# Altium footprint library WCAP-AIG5.PcbLib: 30 footprints (part 1 of 2)
Each footprint in its own frame and in the unit in brackets; x right, y up, seen from the top. Pads: shape width x height; smd on the part's side, far side on the other; paste and mask are expansions set on the pad; w line width, h text height; cw(c..) or ccw(c..) is an arc to the next point about the centre after c.
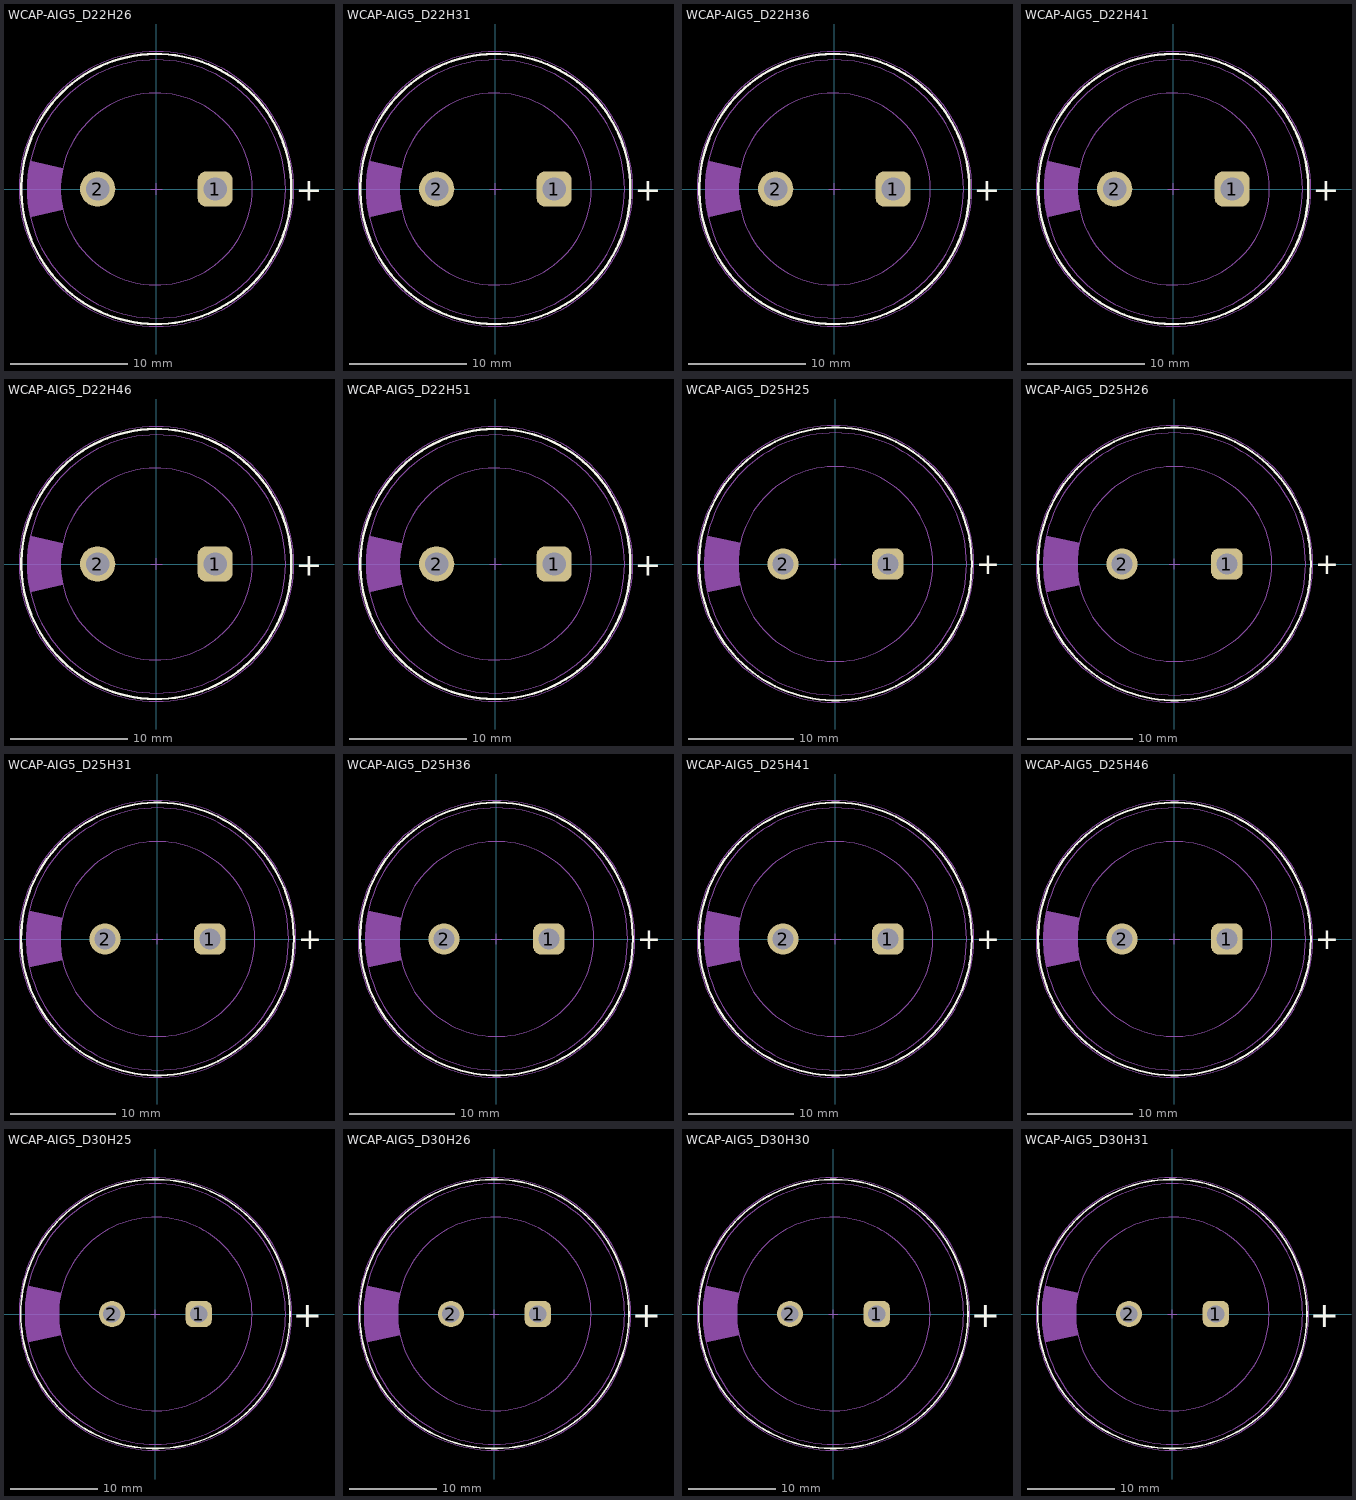
[diagram p0: the footprints below, top view; thin cyan lines are the x and y axes]

## WCAP-AIG5_D22H26 [mm] "Aluminium Electrolytic Snap-In Capacitors, 22x26mm"
height 26
pads (2):
  rrect50% 3x3 hole 2: 1(5,0)
  round 3 hole 2: 2(-5,0)
Top Overlay:
  circle w0.2: c0,0 r11.5
  text "+" at 11.85,-1 h2
Top Component Outline:
  circle w0.1: c0,0 r11
  circle w0.1: c0,0 r8.17
  region: -10.737,-2.391 -7.974,-1.779 -7.975,-1.776 -8.06,-1.337 -8.158,-0.447 -8.158,0.447 -8.06,1.337 -7.975,1.776 -7.974,1.779 -10.737,2.391 -10.802,2.097 -10.901,1.503 -10.967,0.903 -11,0.301 -11,-0.301 -10.967,-0.903 -10.901,-1.503 -10.802,-2.097
Top Courtyard:
  circle w0.05: c0,0 r11.7
Top Component Center:
  lines w0.05: -0.5,0 0.5,0 ; 0,-0.5 0,0.5
Top Designator (Mech19):
  text ".Designator" at -7.498,-0.5 h1.5
3D body "22x26.stp": height 26.09, standoff -6.05, extent -10.96,-11 11,11

## WCAP-AIG5_D22H31 [mm] "Aluminium Electrolytic Snap-In Capacitors, 22x31mm"
height 31
pads (2):
  rrect50% 3x3 hole 2: 1(5,0)
  round 3 hole 2: 2(-5,0)
Top Overlay:
  circle w0.2: c0,0 r11.5
  text "+" at 11.85,-1 h2
Top Component Outline:
  circle w0.1: c0,0 r11
  circle w0.1: c0,0 r8.17
  region: -10.737,-2.391 -7.974,-1.779 -7.975,-1.776 -8.06,-1.337 -8.158,-0.447 -8.158,0.447 -8.06,1.337 -7.975,1.776 -7.974,1.779 -10.737,2.391 -10.802,2.097 -10.901,1.503 -10.967,0.903 -11,0.301 -11,-0.301 -10.967,-0.903 -10.901,-1.503 -10.802,-2.097
Top Courtyard:
  circle w0.05: c0,0 r11.7
Top Component Center:
  lines w0.05: -0.5,0 0.5,0 ; 0,-0.5 0,0.5
Top Designator (Mech19):
  text ".Designator" at -7.498,-0.5 h1.5
3D body "22x31.stp": height 31.09, standoff -6.05, extent -10.96,-11 11,11

## WCAP-AIG5_D22H36 [mm] "Aluminium Electrolytic Snap-In Capacitors, 22x36mm"
height 36
pads (2):
  rrect50% 3x3 hole 2: 1(5,0)
  round 3 hole 2: 2(-5,0)
Top Overlay:
  circle w0.2: c0,0 r11.5
  text "+" at 11.85,-1 h2
Top Component Outline:
  circle w0.1: c0,0 r8.17
  circle w0.1: c0,0 r11
  region: -10.737,-2.391 -7.974,-1.779 -7.975,-1.776 -8.06,-1.337 -8.158,-0.447 -8.158,0.447 -8.06,1.337 -7.975,1.776 -7.974,1.779 -10.737,2.391 -10.802,2.097 -10.901,1.503 -10.967,0.903 -11,0.301 -11,-0.301 -10.967,-0.903 -10.901,-1.503 -10.802,-2.097
Top Courtyard:
  circle w0.05: c0,0 r11.7
Top Component Center:
  lines w0.05: -0.5,0 0.5,0 ; 0,-0.5 0,0.5
Top Designator (Mech19):
  text ".Designator" at -7.498,-0.5 h1.5
3D body "22x36.stp": height 36.09, standoff -6.05, extent -10.96,-10.999 11,10.999

## WCAP-AIG5_D22H41 [mm] "Aluminium Electrolytic Snap-In Capacitors, 22x41mm"
height 41
pads (2):
  rrect50% 3x3 hole 2: 1(5,0)
  round 3 hole 2: 2(-5,0)
Top Overlay:
  circle w0.2: c0,0 r11.5
  text "+" at 11.85,-1 h2
Top Component Outline:
  circle w0.1: c0,0 r8.17
  circle w0.1: c0,0 r11
  region: -10.737,-2.391 -7.974,-1.779 -7.975,-1.776 -8.06,-1.337 -8.158,-0.447 -8.158,0.447 -8.06,1.337 -7.975,1.776 -7.974,1.779 -10.737,2.391 -10.802,2.097 -10.901,1.503 -10.967,0.903 -11,0.301 -11,-0.301 -10.967,-0.903 -10.901,-1.503 -10.802,-2.097
Top Courtyard:
  circle w0.05: c0,0 r11.7
Top Component Center:
  lines w0.05: -0.5,0 0.5,0 ; 0,-0.5 0,0.5
Top Designator (Mech19):
  text ".Designator" at -7.498,-0.5 h1.5
3D body "22x41.stp": height 41.09, standoff -6.05, extent -10.96,-10.999 11,10.998

## WCAP-AIG5_D22H46 [mm] "Aluminium Electrolytic Snap-In Capacitors, 22x46mm"
height 46
pads (2):
  rrect50% 3x3 hole 2: 1(5,0)
  round 3 hole 2: 2(-5,0)
Top Overlay:
  circle w0.2: c0,0 r11.5
  text "+" at 11.85,-1 h2
Top Component Outline:
  circle w0.1: c0,0 r11
  circle w0.1: c0,0 r8.17
  region: -10.737,-2.391 -7.974,-1.779 -7.975,-1.776 -8.06,-1.337 -8.158,-0.447 -8.158,0.447 -8.06,1.337 -7.975,1.776 -7.974,1.779 -10.737,2.391 -10.802,2.097 -10.901,1.503 -10.967,0.903 -11,0.301 -11,-0.301 -10.967,-0.903 -10.901,-1.503 -10.802,-2.097
Top Courtyard:
  circle w0.05: c0,0 r11.7
Top Component Center:
  lines w0.05: -0.5,0 0.5,0 ; 0,-0.5 0,0.5
Top Designator (Mech19):
  text ".Designator" at -7.498,-0.5 h1.5
3D body "22x46.stp": height 46.09, standoff -6.05, extent -10.96,-10.998 11,10.996

## WCAP-AIG5_D22H51 [mm] "Aluminium Electrolytic Snap-In Capacitors, 22x51mm"
height 51
pads (2):
  rrect50% 3x3 hole 2: 1(5,0)
  round 3 hole 2: 2(-5,0)
Top Overlay:
  circle w0.2: c0,0 r11.5
  text "+" at 11.85,-1 h2
Top Component Outline:
  circle w0.1: c0,0 r11
  circle w0.1: c0,0 r8.17
  region: -10.737,-2.391 -7.974,-1.779 -7.975,-1.776 -8.06,-1.337 -8.158,-0.447 -8.158,0.447 -8.06,1.337 -7.975,1.776 -7.974,1.779 -10.737,2.391 -10.802,2.097 -10.901,1.503 -10.967,0.903 -11,0.301 -11,-0.301 -10.967,-0.903 -10.901,-1.503 -10.802,-2.097
Top Courtyard:
  circle w0.05: c0,0 r11.7
Top Component Center:
  lines w0.05: -0.5,0 0.5,0 ; 0,-0.5 0,0.5
Top Designator (Mech19):
  text ".Designator" at -7.498,-0.5 h1.5
3D body "22x51.stp": height 51.09, standoff -6.05, extent -10.96,-10.996 11,10.993

## WCAP-AIG5_D25H25 [mm] "Aluminium Electrolytic Snap-In Capacitors, 25x25mm"
height 25
pads (2):
  rrect50% 3x3 hole 2: 1(5,0)
  round 3 hole 2: 2(-5,0)
Top Overlay:
  circle w0.2: c0,0 r13
  text "+" at 13.4,-1 h2
Top Component Outline:
  circle w0.1: c0,0 r9.29
  circle w0.1: c0,0 r12.5
  region: -12.204,-2.704 -9.066,-2.026 -9.068,-2.02 -9.12,-1.771 -9.203,-1.269 -9.259,-0.763 -9.287,-0.255 -9.287,0.255 -9.259,0.763 -9.203,1.269 -9.12,1.771 -9.068,2.02 -9.066,2.026 -12.204,2.704 -12.278,2.372 -12.389,1.699 -12.463,1.021 -12.5,0.341 -12.5,-0.341 -12.463,-1.021 -12.389,-1.699 -12.278,-2.372
Top Courtyard:
  circle w0.05: c0,0 r13.2
Top Component Center:
  lines w0.05: -0.5,0 0.5,0 ; 0,-0.5 0,0.5
Top Designator (Mech19):
  text ".Designator" at -7.498,-0.5 h1.5
3D body "25x25.stp": height 26.09, standoff -6.05, extent -12.46,-12.499 12.499,12.498

## WCAP-AIG5_D25H26 [mm] "Aluminium Electrolytic Snap-In Capacitors, 25x26mm"
height 26
pads (2):
  rrect50% 3x3 hole 2: 1(5,0)
  round 3 hole 2: 2(-5,0)
Top Overlay:
  circle w0.2: c0,0 r13
  text "+" at 13.4,-1 h2
Top Component Outline:
  circle w0.1: c0,0 r9.29
  circle w0.1: c0,0 r12.5
  region: -12.204,-2.704 -9.066,-2.026 -9.068,-2.02 -9.12,-1.771 -9.203,-1.269 -9.259,-0.763 -9.287,-0.255 -9.287,0.255 -9.259,0.763 -9.203,1.269 -9.12,1.771 -9.068,2.02 -9.066,2.026 -12.204,2.704 -12.278,2.372 -12.389,1.699 -12.463,1.021 -12.5,0.341 -12.5,-0.341 -12.463,-1.021 -12.389,-1.699 -12.278,-2.372
Top Courtyard:
  circle w0.05: c0,0 r13.2
Top Component Center:
  lines w0.05: -0.5,0 0.5,0 ; 0,-0.5 0,0.5
Top Designator (Mech19):
  text ".Designator" at -7.498,-0.5 h1.5
3D body "25X26.stp": height 26.09, standoff -6.05, extent -12.46,-12.499 12.499,12.498

## WCAP-AIG5_D25H31 [mm] "Aluminium Electrolytic Snap-In Capacitors, 25x31mm"
height 31
pads (2):
  rrect50% 3x3 hole 2: 1(5,0)
  round 3 hole 2: 2(-5,0)
Top Overlay:
  circle w0.2: c0,0 r13
  text "+" at 13.4,-1 h2
Top Component Outline:
  circle w0.1: c0,0 r12.5
  circle w0.1: c0,0 r9.29
  region: -12.204,-2.704 -9.066,-2.026 -9.068,-2.02 -9.12,-1.771 -9.203,-1.269 -9.259,-0.763 -9.287,-0.255 -9.287,0.255 -9.259,0.763 -9.203,1.269 -9.12,1.771 -9.068,2.02 -9.066,2.026 -12.204,2.704 -12.278,2.372 -12.389,1.699 -12.463,1.021 -12.5,0.341 -12.5,-0.341 -12.463,-1.021 -12.389,-1.699 -12.278,-2.372
Top Courtyard:
  circle w0.05: c0,0 r13.2
Top Component Center:
  lines w0.05: -0.5,0 0.5,0 ; 0,-0.5 0,0.5
Top Designator (Mech19):
  text ".Designator" at -7.498,-0.5 h1.5
3D body "25X31.stp": height 31.09, standoff -6.05, extent -12.46,-12.497 12.499,12.496

## WCAP-AIG5_D25H36 [mm] "Aluminium Electrolytic Snap-In Capacitors, 25x36mm"
height 36
pads (2):
  rrect50% 3x3 hole 2: 1(5,0)
  round 3 hole 2: 2(-5,0)
Top Overlay:
  circle w0.2: c0,0 r13
  text "+" at 13.4,-1 h2
Top Component Outline:
  circle w0.1: c0,0 r12.5
  circle w0.1: c0,0 r9.29
  region: -12.204,-2.704 -9.066,-2.026 -9.068,-2.02 -9.12,-1.771 -9.203,-1.269 -9.259,-0.763 -9.287,-0.255 -9.287,0.255 -9.259,0.763 -9.203,1.269 -9.12,1.771 -9.068,2.02 -9.066,2.026 -12.204,2.704 -12.278,2.372 -12.389,1.699 -12.463,1.021 -12.5,0.341 -12.5,-0.341 -12.463,-1.021 -12.389,-1.699 -12.278,-2.372
Top Courtyard:
  circle w0.05: c0,0 r13.2
Top Component Center:
  lines w0.05: -0.5,0 0.5,0 ; 0,-0.5 0,0.5
Top Designator (Mech19):
  text ".Designator" at -7.498,-0.5 h1.5
3D body "25X36.stp": height 36.09, standoff -6.05, extent -12.46,-12.5 12.499,12.5

## WCAP-AIG5_D25H41 [mm] "Aluminium Electrolytic Snap-In Capacitors, 25x41mm"
height 41
pads (2):
  rrect50% 3x3 hole 2: 1(5,0)
  round 3 hole 2: 2(-5,0)
Top Overlay:
  circle w0.2: c0,0 r13
  text "+" at 13.4,-1 h2
Top Component Outline:
  circle w0.1: c0,0 r12.5
  circle w0.1: c0,0 r9.29
  region: -12.204,-2.704 -9.066,-2.026 -9.068,-2.02 -9.12,-1.771 -9.203,-1.269 -9.259,-0.763 -9.287,-0.255 -9.287,0.255 -9.259,0.763 -9.203,1.269 -9.12,1.771 -9.068,2.02 -9.066,2.026 -12.204,2.704 -12.278,2.372 -12.389,1.699 -12.463,1.021 -12.5,0.341 -12.5,-0.341 -12.463,-1.021 -12.389,-1.699 -12.278,-2.372
Top Courtyard:
  circle w0.05: c0,0 r13.2
Top Component Center:
  lines w0.05: -0.5,0 0.5,0 ; 0,-0.5 0,0.5
Top Designator (Mech19):
  text ".Designator" at -7.498,-0.5 h1.5
3D body "25x41.stp": height 41.09, standoff -6.05, extent -12.46,-12.496 12.499,12.498

## WCAP-AIG5_D25H46 [mm] "Aluminium Electrolytic Snap-In Capacitors, 25x46mm"
height 46
pads (2):
  rrect50% 3x3 hole 2: 1(5,0)
  round 3 hole 2: 2(-5,0)
Top Overlay:
  circle w0.2: c0,0 r13
  text "+" at 13.4,-1 h2
Top Component Outline:
  circle w0.1: c0,0 r9.29
  circle w0.1: c0,0 r12.5
  region: -12.204,-2.704 -9.066,-2.026 -9.068,-2.02 -9.12,-1.771 -9.203,-1.269 -9.259,-0.763 -9.287,-0.255 -9.287,0.255 -9.259,0.763 -9.203,1.269 -9.12,1.771 -9.068,2.02 -9.066,2.026 -12.204,2.704 -12.278,2.372 -12.389,1.699 -12.463,1.021 -12.5,0.341 -12.5,-0.341 -12.463,-1.021 -12.389,-1.699 -12.278,-2.372
Top Courtyard:
  circle w0.05: c0,0 r13.2
Top Component Center:
  lines w0.05: -0.5,0 0.5,0 ; 0,-0.5 0,0.5
Top Designator (Mech19):
  text ".Designator" at -7.498,-0.5 h1.5
3D body "25x46.stp": height 46.09, standoff -6.05, extent -12.46,-12.497 12.499,12.499

## WCAP-AIG5_D30H25 [mm] "Aluminium Electrolytic Snap-In Capacitors, 30x25mm"
height 25
pads (2):
  rrect50% 3x3 hole 2: 1(5,0)
  round 3 hole 2: 2(-5,0)
Top Overlay:
  circle w0.2: c0,0 r15.5
  text "+" at 15.85,-1.5 h3
Top Component Outline:
  circle w0.1: c0,0 r11.14
  circle w0.1: c0,0 r15
  region: -14.643,-3.251 -10.874,-2.422 -10.874,-2.421 -10.936,-2.122 -11.036,-1.52 -11.102,-0.914 -11.136,-0.305 -11.136,0.305 -11.102,0.914 -11.036,1.52 -10.936,2.122 -10.874,2.421 -10.874,2.422 -14.643,3.251 -14.732,2.851 -14.866,2.042 -14.955,1.228 -15,0.41 -15,-0.41 -14.955,-1.228 -14.866,-2.042 -14.732,-2.851
Top Courtyard:
  circle w0.05: c0,0 r15.7
Top Component Center:
  lines w0.05: -0.5,0 0.5,0 ; 0,-0.5 0,0.5
Top Designator (Mech19):
  text ".Designator" at -7.498,-0.5 h1.5
3D body "30x25.stp": height 25.09, standoff -6.05, extent -14.96,-14.996 14.999,14.998

## WCAP-AIG5_D30H26 [mm] "Aluminium Electrolytic Snap-In Capacitors, 30x26mm"
height 26
pads (2):
  rrect50% 3x3 hole 2: 1(5,0)
  round 3 hole 2: 2(-5,0)
Top Overlay:
  circle w0.2: c0,0 r15.5
  text "+" at 15.85,-1.5 h3
Top Component Outline:
  circle w0.1: c0,0 r15
  circle w0.1: c0,0 r11.14
  region: -14.643,-3.251 -10.874,-2.422 -10.874,-2.421 -10.936,-2.122 -11.036,-1.52 -11.102,-0.914 -11.136,-0.305 -11.136,0.305 -11.102,0.914 -11.036,1.52 -10.936,2.122 -10.874,2.421 -10.874,2.422 -14.643,3.251 -14.732,2.851 -14.866,2.042 -14.955,1.228 -15,0.41 -15,-0.41 -14.955,-1.228 -14.866,-2.042 -14.732,-2.851
Top Courtyard:
  circle w0.05: c0,0 r15.7
Top Component Center:
  lines w0.05: -0.5,0 0.5,0 ; 0,-0.5 0,0.5
Top Designator (Mech19):
  text ".Designator" at -7.498,-0.5 h1.5
3D body "30x26.stp": height 26.09, standoff -6.05, extent -14.96,-14.996 14.999,14.998

## WCAP-AIG5_D30H30 [mm] "Aluminium Electrolytic Snap-In Capacitors, 30x30mm"
height 30
pads (2):
  rrect50% 3x3 hole 2: 1(5,0)
  round 3 hole 2: 2(-5,0)
Top Overlay:
  circle w0.2: c0,0 r15.5
  text "+" at 15.85,-1.5 h3
Top Component Outline:
  circle w0.1: c0,0 r15
  circle w0.1: c0,0 r11.14
  region: -14.643,-3.251 -10.874,-2.422 -10.874,-2.421 -10.936,-2.122 -11.036,-1.52 -11.102,-0.914 -11.136,-0.305 -11.136,0.305 -11.102,0.914 -11.036,1.52 -10.936,2.122 -10.874,2.421 -10.874,2.422 -14.643,3.251 -14.732,2.851 -14.866,2.042 -14.955,1.228 -15,0.41 -15,-0.41 -14.955,-1.228 -14.866,-2.042 -14.732,-2.851
Top Courtyard:
  circle w0.05: c0,0 r15.7
Top Component Center:
  lines w0.05: -0.5,0 0.5,0 ; 0,-0.5 0,0.5
Top Designator (Mech19):
  text ".Designator" at -7.498,-0.5 h1.5
3D body "30x30.stp": height 30.09, standoff -6.05, extent -14.96,-15 14.999,14.999

## WCAP-AIG5_D30H31 [mm] "Aluminium Electrolytic Snap-In Capacitors, 30x31mm"
height 31
pads (2):
  rrect50% 3x3 hole 2: 1(5,0)
  round 3 hole 2: 2(-5,0)
Top Overlay:
  circle w0.2: c0,0 r15.5
  text "+" at 15.85,-1.5 h3
Top Component Outline:
  circle w0.1: c0,0 r15
  circle w0.1: c0,0 r11.14
  region: -14.643,-3.251 -10.874,-2.422 -10.874,-2.421 -10.936,-2.122 -11.036,-1.52 -11.102,-0.914 -11.136,-0.305 -11.136,0.305 -11.102,0.914 -11.036,1.52 -10.936,2.122 -10.874,2.421 -10.874,2.422 -14.643,3.251 -14.732,2.851 -14.866,2.042 -14.955,1.228 -15,0.41 -15,-0.41 -14.955,-1.228 -14.866,-2.042 -14.732,-2.851
Top Courtyard:
  circle w0.05: c0,0 r15.7
Top Component Center:
  lines w0.05: -0.5,0 0.5,0 ; 0,-0.5 0,0.5
Top Designator (Mech19):
  text ".Designator" at -7.498,-0.5 h1.5
3D body "30x31.stp": height 31.09, standoff -6.05, extent -14.96,-14.997 14.999,14.999